# EAGLE library part FL256S-128S (library Synapseware)
S25FL256S and S25FL128S (32MB & 16MB Flash SOIC-16)
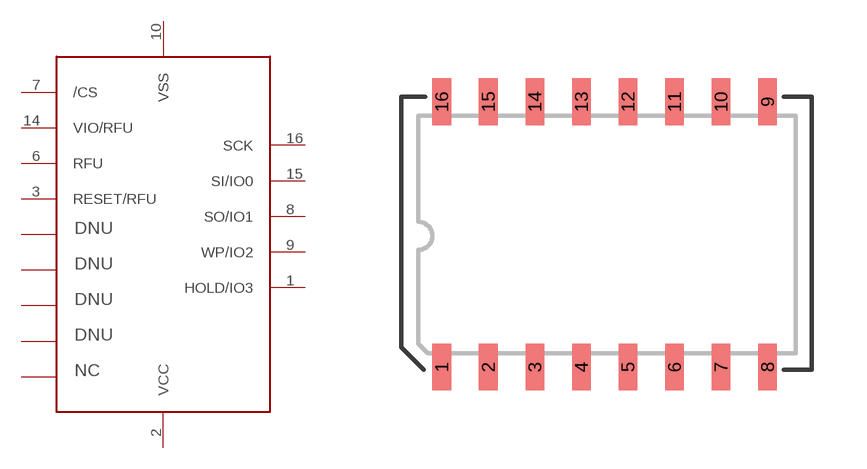
[diagram p33: symbol with the pads of SOIC-16; footprint SOIC-16]

Designator prefix -

## FL256S-128S  [SOIC-16]
1  HOLD/IO3
2  VCC
3  RESET/RFU
4  P$8
5  P$9
6  RFU
7  /CS
8  SO/IO1
9  WP/IO2
10  VSS
11  P$11
12  P$12
13  P$14
14  VIO/RFU
15  SI/IO0
16  SCK

## Footprint SOIC-16 (pad centres in mm)
smd 0.508 x 1.27: 1 -4.445,-3.556; 2 -3.175,-3.556; 3 -1.905,-3.556; 4 -0.635,-3.556; 5 0.635,-3.556; 6 1.905,-3.556; 7 3.175,-3.556; 8 4.445,-3.556; 9 4.445,3.683; 10 3.175,3.683; 11 1.905,3.683; 12 0.635,3.683; 13 -0.635,3.683; 14 -1.905,3.683; 15 -3.175,3.683; 16 -4.445,3.683